# Altium integrated library Spansion Memory Flash.IntLib: 812 symbols (part 19 of 21)
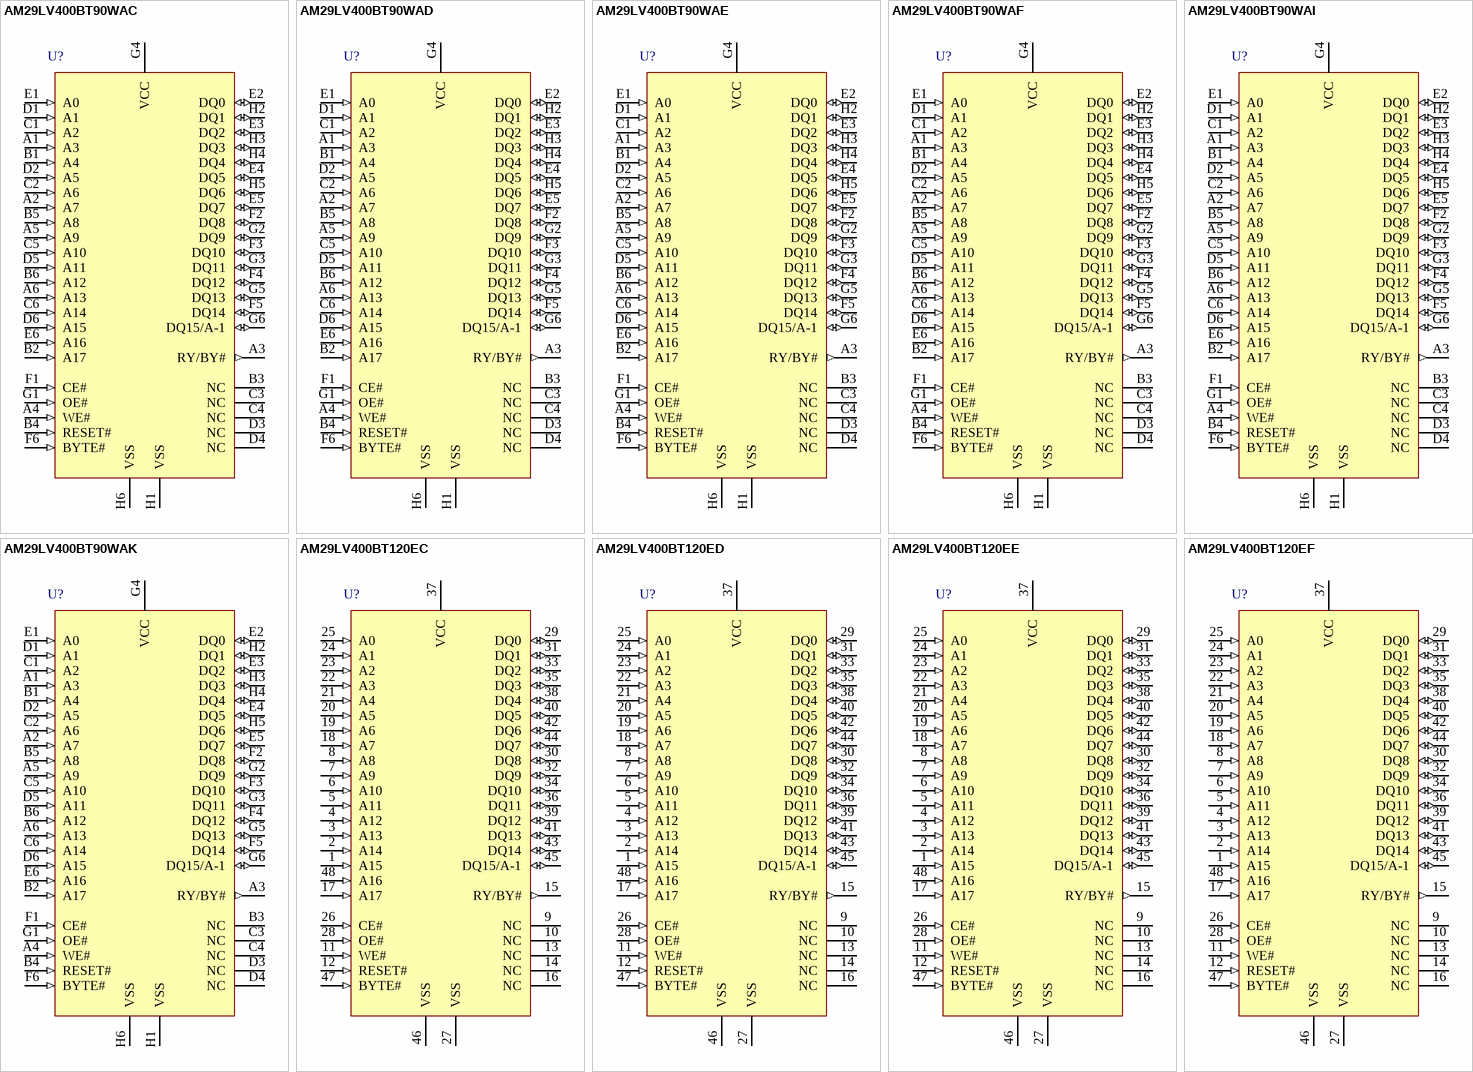
[diagram p84: symbols AM29LV400BT90WAC to AM29LV400BT120EF]

## AM29LV400BT90WAI
designator U?
4 Mb (512 K x 8 / 256 K x 16) CMOS 3.0 Volt Boot Sector Flash Memory, 48-Ball FBGA, Industrial Grade; Published: 6-Oct-2005; LatestRevisionDate: 13-Apr-2006; LatestRevisionNote: IPC-7351 Footprint Added.; DatasheetVersion: Oct-2003; PackageVersion: revAF, 10/99; PackageReference: FBA048; Publisher: Altium Limited; PackageDescription: 48-Ball Fine Pitch Ball Grid Array Rectangular 0.8 mm Pitch; ComponentLink1Description: Manufacturer Link; ComponentLink1URL: http://www.spansion.com/; ComponentLink2Description: Datasheet; ComponentLink2URL: http://www.spansion.com/datasheets/21523.pdf
footprint FBA048 (BGA, 48-Leads, Body 8x6mm, Pitch 0.8mm)
pins: A1 A3 (in), A2 A7 (in), A3 RY/BY# (out), A4 WE# (in), A5 A9 (in), A6 A13 (in), B1 A4 (in), B2 A17 (in), B3 NC, B4 RESET# (in), B5 A8 (in), B6 A12 (in), C1 A2 (in), C2 A6 (in), C3 NC, C4 NC, C5 A10 (in), C6 A14 (in), D1 A1 (in), D2 A5 (in), D3 NC, D4 NC, D5 A11 (in), D6 A15 (in), E1 A0 (in), E2 DQ0 (io), E3 DQ2 (io), E4 DQ5 (io), E5 DQ7 (io), E6 A16 (in), F1 CE# (in), F2 DQ8 (io), F3 DQ10 (io), F4 DQ12 (io), F5 DQ14 (io), F6 BYTE# (in), G1 OE# (in), G2 DQ9 (io), G3 DQ11 (io), G4 VCC (power), G5 DQ13 (io), G6 DQ15/A-1 (io), H1 VSS (power), H2 DQ1 (io), H3 DQ3 (io), H4 DQ4 (io), H5 DQ6 (io), H6 VSS (power)

## AM29LV400BT90WAK
designator U?
4 Mb (512 K x 8 / 256 K x 16) CMOS 3.0 Volt Boot Sector Flash Memory, 48-Ball FBGA, Extended Grade, Pb-free; Published: 6-Oct-2005; LatestRevisionDate: 13-Apr-2006; LatestRevisionNote: IPC-7351 Footprint Added.; DatasheetVersion: Oct-2003; PackageVersion: revAF, 10/99; PackageReference: FBA048; Publisher: Altium Limited; PackageDescription: 48-Ball Fine Pitch Ball Grid Array Rectangular 0.8 mm Pitch; ComponentLink1Description: Manufacturer Link; ComponentLink1URL: http://www.spansion.com/; ComponentLink2Description: Datasheet; ComponentLink2URL: http://www.spansion.com/datasheets/21523.pdf
footprint FBA048 (BGA, 48-Leads, Body 8x6mm, Pitch 0.8mm)
pins: A1 A3 (in), A2 A7 (in), A3 RY/BY# (out), A4 WE# (in), A5 A9 (in), A6 A13 (in), B1 A4 (in), B2 A17 (in), B3 NC, B4 RESET# (in), B5 A8 (in), B6 A12 (in), C1 A2 (in), C2 A6 (in), C3 NC, C4 NC, C5 A10 (in), C6 A14 (in), D1 A1 (in), D2 A5 (in), D3 NC, D4 NC, D5 A11 (in), D6 A15 (in), E1 A0 (in), E2 DQ0 (io), E3 DQ2 (io), E4 DQ5 (io), E5 DQ7 (io), E6 A16 (in), F1 CE# (in), F2 DQ8 (io), F3 DQ10 (io), F4 DQ12 (io), F5 DQ14 (io), F6 BYTE# (in), G1 OE# (in), G2 DQ9 (io), G3 DQ11 (io), G4 VCC (power), G5 DQ13 (io), G6 DQ15/A-1 (io), H1 VSS (power), H2 DQ1 (io), H3 DQ3 (io), H4 DQ4 (io), H5 DQ6 (io), H6 VSS (power)

## AM29LV400BT120EC
designator U?
4 Mb (512 K x 8 / 256 K x 16) CMOS 3.0 Volt Boot Sector Flash Memory, 48-Pin TSOP Standard Pinout, Commercial Grade; Published: 6-Oct-2005; DatasheetVersion: Oct-2003; PackageVersion: revAA, 10/99; PackageReference: TS048; Publisher: Altium Limited; PackageDescription: Shrink Small Outline; 48 Leads; Body Width 18.4 mm; Pitch 0.5 mm; Code_JEDEC: MO-142-DD; ComponentLink1Description: Manufacturer Link; ComponentLink1URL: http://www.spansion.com/; ComponentLink2Description: Datasheet; ComponentLink2URL: http://www.spansion.com/datasheets/21523.pdf
footprint TS048 (Shrink Small Outline; 48 Leads; Body Width 18.4 mm; Pitch 0.5 mm)
pins: 1 A15 (in), 2 A14 (in), 3 A13 (in), 4 A12 (in), 5 A11 (in), 6 A10 (in), 7 A9 (in), 8 A8 (in), 9 NC, 10 NC, 11 WE# (in), 12 RESET# (in), 13 NC, 14 NC, 15 RY/BY# (out), 16 NC, 17 A17 (in), 18 A7 (in), 19 A6 (in), 20 A5 (in), 21 A4 (in), 22 A3 (in), 23 A2 (in), 24 A1 (in), 25 A0 (in), 26 CE# (in), 27 VSS (power), 28 OE# (in), 29 DQ0 (io), 30 DQ8 (io), 31 DQ1 (io), 32 DQ9 (io), 33 DQ2 (io), 34 DQ10 (io), 35 DQ3 (io), 36 DQ11 (io), 37 VCC (power), 38 DQ4 (io), 39 DQ12 (io), 40 DQ5 (io), 41 DQ13 (io), 42 DQ6 (io), 43 DQ14 (io), 44 DQ7 (io), 45 DQ15/A-1 (io), 46 VSS (power), 47 BYTE# (in), 48 A16 (in)

## AM29LV400BT120ED
designator U?
4 Mb (512 K x 8 / 256 K x 16) CMOS 3.0 Volt Boot Sector Flash Memory, 48-Pin TSOP Standard Pinout, Commercial Grade, Pb-free; Published: 6-Oct-2005; DatasheetVersion: Oct-2003; PackageVersion: revAA, 10/99; PackageReference: TS048; Publisher: Altium Limited; PackageDescription: Shrink Small Outline; 48 Leads; Body Width 18.4 mm; Pitch 0.5 mm; Code_JEDEC: MO-142-DD; ComponentLink1Description: Manufacturer Link; ComponentLink1URL: http://www.spansion.com/; ComponentLink2Description: Datasheet; ComponentLink2URL: http://www.spansion.com/datasheets/21523.pdf
footprint TS048 (Shrink Small Outline; 48 Leads; Body Width 18.4 mm; Pitch 0.5 mm)
pins: 1 A15 (in), 2 A14 (in), 3 A13 (in), 4 A12 (in), 5 A11 (in), 6 A10 (in), 7 A9 (in), 8 A8 (in), 9 NC, 10 NC, 11 WE# (in), 12 RESET# (in), 13 NC, 14 NC, 15 RY/BY# (out), 16 NC, 17 A17 (in), 18 A7 (in), 19 A6 (in), 20 A5 (in), 21 A4 (in), 22 A3 (in), 23 A2 (in), 24 A1 (in), 25 A0 (in), 26 CE# (in), 27 VSS (power), 28 OE# (in), 29 DQ0 (io), 30 DQ8 (io), 31 DQ1 (io), 32 DQ9 (io), 33 DQ2 (io), 34 DQ10 (io), 35 DQ3 (io), 36 DQ11 (io), 37 VCC (power), 38 DQ4 (io), 39 DQ12 (io), 40 DQ5 (io), 41 DQ13 (io), 42 DQ6 (io), 43 DQ14 (io), 44 DQ7 (io), 45 DQ15/A-1 (io), 46 VSS (power), 47 BYTE# (in), 48 A16 (in)

## AM29LV400BT120EE
designator U?
4 Mb (512 K x 8 / 256 K x 16) CMOS 3.0 Volt Boot Sector Flash Memory, 48-Pin TSOP Standard Pinout, Extended Grade; Published: 6-Oct-2005; DatasheetVersion: Oct-2003; PackageVersion: revAA, 10/99; PackageReference: TS048; Publisher: Altium Limited; PackageDescription: Shrink Small Outline; 48 Leads; Body Width 18.4 mm; Pitch 0.5 mm; Code_JEDEC: MO-142-DD; ComponentLink1Description: Manufacturer Link; ComponentLink1URL: http://www.spansion.com/; ComponentLink2Description: Datasheet; ComponentLink2URL: http://www.spansion.com/datasheets/21523.pdf
footprint TS048 (Shrink Small Outline; 48 Leads; Body Width 18.4 mm; Pitch 0.5 mm)
pins: 1 A15 (in), 2 A14 (in), 3 A13 (in), 4 A12 (in), 5 A11 (in), 6 A10 (in), 7 A9 (in), 8 A8 (in), 9 NC, 10 NC, 11 WE# (in), 12 RESET# (in), 13 NC, 14 NC, 15 RY/BY# (out), 16 NC, 17 A17 (in), 18 A7 (in), 19 A6 (in), 20 A5 (in), 21 A4 (in), 22 A3 (in), 23 A2 (in), 24 A1 (in), 25 A0 (in), 26 CE# (in), 27 VSS (power), 28 OE# (in), 29 DQ0 (io), 30 DQ8 (io), 31 DQ1 (io), 32 DQ9 (io), 33 DQ2 (io), 34 DQ10 (io), 35 DQ3 (io), 36 DQ11 (io), 37 VCC (power), 38 DQ4 (io), 39 DQ12 (io), 40 DQ5 (io), 41 DQ13 (io), 42 DQ6 (io), 43 DQ14 (io), 44 DQ7 (io), 45 DQ15/A-1 (io), 46 VSS (power), 47 BYTE# (in), 48 A16 (in)

## AM29LV400BT120EF
designator U?
4 Mb (512 K x 8 / 256 K x 16) CMOS 3.0 Volt Boot Sector Flash Memory, 48-Pin TSOP Standard Pinout, Industrial Grade, Pb-free; Published: 6-Oct-2005; DatasheetVersion: Oct-2003; PackageVersion: revAA, 10/99; PackageReference: TS048; Publisher: Altium Limited; PackageDescription: Shrink Small Outline; 48 Leads; Body Width 18.4 mm; Pitch 0.5 mm; Code_JEDEC: MO-142-DD; ComponentLink1Description: Manufacturer Link; ComponentLink1URL: http://www.spansion.com/; ComponentLink2Description: Datasheet; ComponentLink2URL: http://www.spansion.com/datasheets/21523.pdf
footprint TS048 (Shrink Small Outline; 48 Leads; Body Width 18.4 mm; Pitch 0.5 mm)
pins: 1 A15 (in), 2 A14 (in), 3 A13 (in), 4 A12 (in), 5 A11 (in), 6 A10 (in), 7 A9 (in), 8 A8 (in), 9 NC, 10 NC, 11 WE# (in), 12 RESET# (in), 13 NC, 14 NC, 15 RY/BY# (out), 16 NC, 17 A17 (in), 18 A7 (in), 19 A6 (in), 20 A5 (in), 21 A4 (in), 22 A3 (in), 23 A2 (in), 24 A1 (in), 25 A0 (in), 26 CE# (in), 27 VSS (power), 28 OE# (in), 29 DQ0 (io), 30 DQ8 (io), 31 DQ1 (io), 32 DQ9 (io), 33 DQ2 (io), 34 DQ10 (io), 35 DQ3 (io), 36 DQ11 (io), 37 VCC (power), 38 DQ4 (io), 39 DQ12 (io), 40 DQ5 (io), 41 DQ13 (io), 42 DQ6 (io), 43 DQ14 (io), 44 DQ7 (io), 45 DQ15/A-1 (io), 46 VSS (power), 47 BYTE# (in), 48 A16 (in)

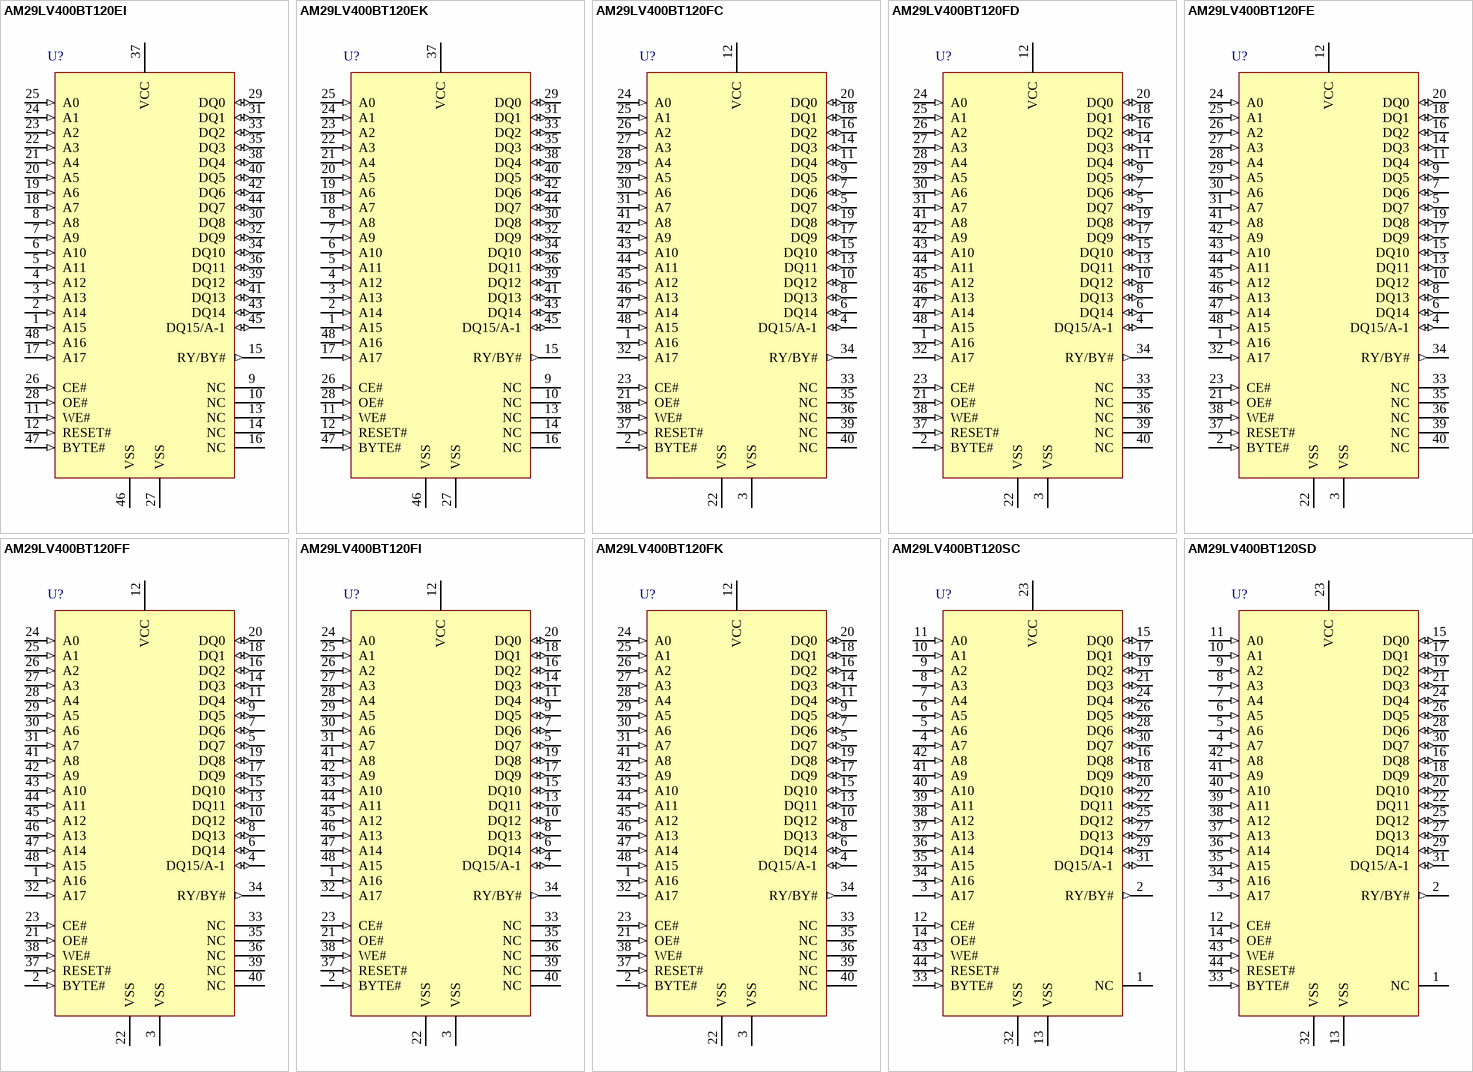
[diagram p58: symbols AM29LV400BT120EI to AM29LV400BT120SD]

## AM29LV400BT120EI
designator U?
4 Mb (512 K x 8 / 256 K x 16) CMOS 3.0 Volt Boot Sector Flash Memory, 48-Pin TSOP Standard Pinout, Industrial Grade; Published: 6-Oct-2005; DatasheetVersion: Oct-2003; PackageVersion: revAA, 10/99; PackageReference: TS048; Publisher: Altium Limited; PackageDescription: Shrink Small Outline; 48 Leads; Body Width 18.4 mm; Pitch 0.5 mm; Code_JEDEC: MO-142-DD; ComponentLink1Description: Manufacturer Link; ComponentLink1URL: http://www.spansion.com/; ComponentLink2Description: Datasheet; ComponentLink2URL: http://www.spansion.com/datasheets/21523.pdf
footprint TS048 (Shrink Small Outline; 48 Leads; Body Width 18.4 mm; Pitch 0.5 mm)
pins: 1 A15 (in), 2 A14 (in), 3 A13 (in), 4 A12 (in), 5 A11 (in), 6 A10 (in), 7 A9 (in), 8 A8 (in), 9 NC, 10 NC, 11 WE# (in), 12 RESET# (in), 13 NC, 14 NC, 15 RY/BY# (out), 16 NC, 17 A17 (in), 18 A7 (in), 19 A6 (in), 20 A5 (in), 21 A4 (in), 22 A3 (in), 23 A2 (in), 24 A1 (in), 25 A0 (in), 26 CE# (in), 27 VSS (power), 28 OE# (in), 29 DQ0 (io), 30 DQ8 (io), 31 DQ1 (io), 32 DQ9 (io), 33 DQ2 (io), 34 DQ10 (io), 35 DQ3 (io), 36 DQ11 (io), 37 VCC (power), 38 DQ4 (io), 39 DQ12 (io), 40 DQ5 (io), 41 DQ13 (io), 42 DQ6 (io), 43 DQ14 (io), 44 DQ7 (io), 45 DQ15/A-1 (io), 46 VSS (power), 47 BYTE# (in), 48 A16 (in)

## AM29LV400BT120EK
designator U?
4 Mb (512 K x 8 / 256 K x 16) CMOS 3.0 Volt Boot Sector Flash Memory, 48-Pin TSOP Standard Pinout, Extended Grade, Pb-free; Published: 6-Oct-2005; DatasheetVersion: Oct-2003; PackageVersion: revAA, 10/99; PackageReference: TS048; Publisher: Altium Limited; PackageDescription: Shrink Small Outline; 48 Leads; Body Width 18.4 mm; Pitch 0.5 mm; Code_JEDEC: MO-142-DD; ComponentLink1Description: Manufacturer Link; ComponentLink1URL: http://www.spansion.com/; ComponentLink2Description: Datasheet; ComponentLink2URL: http://www.spansion.com/datasheets/21523.pdf
footprint TS048 (Shrink Small Outline; 48 Leads; Body Width 18.4 mm; Pitch 0.5 mm)
pins: 1 A15 (in), 2 A14 (in), 3 A13 (in), 4 A12 (in), 5 A11 (in), 6 A10 (in), 7 A9 (in), 8 A8 (in), 9 NC, 10 NC, 11 WE# (in), 12 RESET# (in), 13 NC, 14 NC, 15 RY/BY# (out), 16 NC, 17 A17 (in), 18 A7 (in), 19 A6 (in), 20 A5 (in), 21 A4 (in), 22 A3 (in), 23 A2 (in), 24 A1 (in), 25 A0 (in), 26 CE# (in), 27 VSS (power), 28 OE# (in), 29 DQ0 (io), 30 DQ8 (io), 31 DQ1 (io), 32 DQ9 (io), 33 DQ2 (io), 34 DQ10 (io), 35 DQ3 (io), 36 DQ11 (io), 37 VCC (power), 38 DQ4 (io), 39 DQ12 (io), 40 DQ5 (io), 41 DQ13 (io), 42 DQ6 (io), 43 DQ14 (io), 44 DQ7 (io), 45 DQ15/A-1 (io), 46 VSS (power), 47 BYTE# (in), 48 A16 (in)

## AM29LV400BT120FC
designator U?
4 Mb (512 K x 8 / 256 K x 16) CMOS 3.0 Volt Boot Sector Flash Memory, 48-Pin TSOP Reverse Pinout, Commercial Grade; Published: 6-Oct-2005; DatasheetVersion: Oct-2003; PackageVersion: revAA, 10/99; PackageReference: TSR048; Publisher: Altium Limited; PackageDescription: Thin Small Outline, Reverse Pinout; 48 Leads; Body Width 18.4 mm; Pitch 0.5 mm; Code_JEDEC: MO-142-DD; ComponentLink1Description: Manufacturer Link; ComponentLink1URL: http://www.spansion.com/; ComponentLink2Description: Datasheet; ComponentLink2URL: http://www.spansion.com/datasheets/21523.pdf
footprint TSR048 (Thin Small Outline, Reverse Pinout; 48 Leads; Body Width 18.4 mm; Pitch 0.5 mm)
pins: 1 A16 (in), 2 BYTE# (in), 3 VSS (power), 4 DQ15/A-1 (io), 5 DQ7 (io), 6 DQ14 (io), 7 DQ6 (io), 8 DQ13 (io), 9 DQ5 (io), 10 DQ12 (io), 11 DQ4 (io), 12 VCC (power), 13 DQ11 (io), 14 DQ3 (io), 15 DQ10 (io), 16 DQ2 (io), 17 DQ9 (io), 18 DQ1 (io), 19 DQ8 (io), 20 DQ0 (io), 21 OE# (in), 22 VSS (power), 23 CE# (in), 24 A0 (in), 25 A1 (in), 26 A2 (in), 27 A3 (in), 28 A4 (in), 29 A5 (in), 30 A6 (in), 31 A7 (in), 32 A17 (in), 33 NC, 34 RY/BY# (out), 35 NC, 36 NC, 37 RESET# (in), 38 WE# (in), 39 NC, 40 NC, 41 A8 (in), 42 A9 (in), 43 A10 (in), 44 A11 (in), 45 A12 (in), 46 A13 (in), 47 A14 (in), 48 A15 (in)

## AM29LV400BT120FD
designator U?
4 Mb (512 K x 8 / 256 K x 16) CMOS 3.0 Volt Boot Sector Flash Memory, 48-Pin TSOP Reverse Pinout, Commercial Grade, Pb-free; Published: 6-Oct-2005; DatasheetVersion: Oct-2003; PackageVersion: revAA, 10/99; PackageReference: TSR048; Publisher: Altium Limited; PackageDescription: Thin Small Outline, Reverse Pinout; 48 Leads; Body Width 18.4 mm; Pitch 0.5 mm; Code_JEDEC: MO-142-DD; ComponentLink1Description: Manufacturer Link; ComponentLink1URL: http://www.spansion.com/; ComponentLink2Description: Datasheet; ComponentLink2URL: http://www.spansion.com/datasheets/21523.pdf
footprint TSR048 (Thin Small Outline, Reverse Pinout; 48 Leads; Body Width 18.4 mm; Pitch 0.5 mm)
pins: 1 A16 (in), 2 BYTE# (in), 3 VSS (power), 4 DQ15/A-1 (io), 5 DQ7 (io), 6 DQ14 (io), 7 DQ6 (io), 8 DQ13 (io), 9 DQ5 (io), 10 DQ12 (io), 11 DQ4 (io), 12 VCC (power), 13 DQ11 (io), 14 DQ3 (io), 15 DQ10 (io), 16 DQ2 (io), 17 DQ9 (io), 18 DQ1 (io), 19 DQ8 (io), 20 DQ0 (io), 21 OE# (in), 22 VSS (power), 23 CE# (in), 24 A0 (in), 25 A1 (in), 26 A2 (in), 27 A3 (in), 28 A4 (in), 29 A5 (in), 30 A6 (in), 31 A7 (in), 32 A17 (in), 33 NC, 34 RY/BY# (out), 35 NC, 36 NC, 37 RESET# (in), 38 WE# (in), 39 NC, 40 NC, 41 A8 (in), 42 A9 (in), 43 A10 (in), 44 A11 (in), 45 A12 (in), 46 A13 (in), 47 A14 (in), 48 A15 (in)

## AM29LV400BT120FE
designator U?
4 Mb (512 K x 8 / 256 K x 16) CMOS 3.0 Volt Boot Sector Flash Memory, 48-Pin TSOP Reverse Pinout, Extended Grade; Published: 6-Oct-2005; DatasheetVersion: Oct-2003; PackageVersion: revAA, 10/99; PackageReference: TSR048; Publisher: Altium Limited; PackageDescription: Thin Small Outline, Reverse Pinout; 48 Leads; Body Width 18.4 mm; Pitch 0.5 mm; Code_JEDEC: MO-142-DD; ComponentLink1Description: Manufacturer Link; ComponentLink1URL: http://www.spansion.com/; ComponentLink2Description: Datasheet; ComponentLink2URL: http://www.spansion.com/datasheets/21523.pdf
footprint TSR048 (Thin Small Outline, Reverse Pinout; 48 Leads; Body Width 18.4 mm; Pitch 0.5 mm)
pins: 1 A16 (in), 2 BYTE# (in), 3 VSS (power), 4 DQ15/A-1 (io), 5 DQ7 (io), 6 DQ14 (io), 7 DQ6 (io), 8 DQ13 (io), 9 DQ5 (io), 10 DQ12 (io), 11 DQ4 (io), 12 VCC (power), 13 DQ11 (io), 14 DQ3 (io), 15 DQ10 (io), 16 DQ2 (io), 17 DQ9 (io), 18 DQ1 (io), 19 DQ8 (io), 20 DQ0 (io), 21 OE# (in), 22 VSS (power), 23 CE# (in), 24 A0 (in), 25 A1 (in), 26 A2 (in), 27 A3 (in), 28 A4 (in), 29 A5 (in), 30 A6 (in), 31 A7 (in), 32 A17 (in), 33 NC, 34 RY/BY# (out), 35 NC, 36 NC, 37 RESET# (in), 38 WE# (in), 39 NC, 40 NC, 41 A8 (in), 42 A9 (in), 43 A10 (in), 44 A11 (in), 45 A12 (in), 46 A13 (in), 47 A14 (in), 48 A15 (in)

## AM29LV400BT120FF
designator U?
4 Mb (512 K x 8 / 256 K x 16) CMOS 3.0 Volt Boot Sector Flash Memory, 48-Pin TSOP Reverse Pinout, Industrial Grade, Pb-free; Published: 6-Oct-2005; DatasheetVersion: Oct-2003; PackageVersion: revAA, 10/99; PackageReference: TSR048; Publisher: Altium Limited; PackageDescription: Thin Small Outline, Reverse Pinout; 48 Leads; Body Width 18.4 mm; Pitch 0.5 mm; Code_JEDEC: MO-142-DD; ComponentLink1Description: Manufacturer Link; ComponentLink1URL: http://www.spansion.com/; ComponentLink2Description: Datasheet; ComponentLink2URL: http://www.spansion.com/datasheets/21523.pdf
footprint TSR048 (Thin Small Outline, Reverse Pinout; 48 Leads; Body Width 18.4 mm; Pitch 0.5 mm)
pins: 1 A16 (in), 2 BYTE# (in), 3 VSS (power), 4 DQ15/A-1 (io), 5 DQ7 (io), 6 DQ14 (io), 7 DQ6 (io), 8 DQ13 (io), 9 DQ5 (io), 10 DQ12 (io), 11 DQ4 (io), 12 VCC (power), 13 DQ11 (io), 14 DQ3 (io), 15 DQ10 (io), 16 DQ2 (io), 17 DQ9 (io), 18 DQ1 (io), 19 DQ8 (io), 20 DQ0 (io), 21 OE# (in), 22 VSS (power), 23 CE# (in), 24 A0 (in), 25 A1 (in), 26 A2 (in), 27 A3 (in), 28 A4 (in), 29 A5 (in), 30 A6 (in), 31 A7 (in), 32 A17 (in), 33 NC, 34 RY/BY# (out), 35 NC, 36 NC, 37 RESET# (in), 38 WE# (in), 39 NC, 40 NC, 41 A8 (in), 42 A9 (in), 43 A10 (in), 44 A11 (in), 45 A12 (in), 46 A13 (in), 47 A14 (in), 48 A15 (in)

## AM29LV400BT120FI
designator U?
4 Mb (512 K x 8 / 256 K x 16) CMOS 3.0 Volt Boot Sector Flash Memory, 48-Pin TSOP Reverse Pinout, Industrial Grade; Published: 6-Oct-2005; DatasheetVersion: Oct-2003; PackageVersion: revAA, 10/99; PackageReference: TSR048; Publisher: Altium Limited; PackageDescription: Thin Small Outline, Reverse Pinout; 48 Leads; Body Width 18.4 mm; Pitch 0.5 mm; Code_JEDEC: MO-142-DD; ComponentLink1Description: Manufacturer Link; ComponentLink1URL: http://www.spansion.com/; ComponentLink2Description: Datasheet; ComponentLink2URL: http://www.spansion.com/datasheets/21523.pdf
footprint TSR048 (Thin Small Outline, Reverse Pinout; 48 Leads; Body Width 18.4 mm; Pitch 0.5 mm)
pins: 1 A16 (in), 2 BYTE# (in), 3 VSS (power), 4 DQ15/A-1 (io), 5 DQ7 (io), 6 DQ14 (io), 7 DQ6 (io), 8 DQ13 (io), 9 DQ5 (io), 10 DQ12 (io), 11 DQ4 (io), 12 VCC (power), 13 DQ11 (io), 14 DQ3 (io), 15 DQ10 (io), 16 DQ2 (io), 17 DQ9 (io), 18 DQ1 (io), 19 DQ8 (io), 20 DQ0 (io), 21 OE# (in), 22 VSS (power), 23 CE# (in), 24 A0 (in), 25 A1 (in), 26 A2 (in), 27 A3 (in), 28 A4 (in), 29 A5 (in), 30 A6 (in), 31 A7 (in), 32 A17 (in), 33 NC, 34 RY/BY# (out), 35 NC, 36 NC, 37 RESET# (in), 38 WE# (in), 39 NC, 40 NC, 41 A8 (in), 42 A9 (in), 43 A10 (in), 44 A11 (in), 45 A12 (in), 46 A13 (in), 47 A14 (in), 48 A15 (in)

## AM29LV400BT120FK
designator U?
4 Mb (512 K x 8 / 256 K x 16) CMOS 3.0 Volt Boot Sector Flash Memory, 48-Pin TSOP Reverse Pinout, Extended Grade, Pb-free; Published: 6-Oct-2005; DatasheetVersion: Oct-2003; PackageVersion: revAA, 10/99; PackageReference: TSR048; Publisher: Altium Limited; PackageDescription: Thin Small Outline, Reverse Pinout; 48 Leads; Body Width 18.4 mm; Pitch 0.5 mm; Code_JEDEC: MO-142-DD; ComponentLink1Description: Manufacturer Link; ComponentLink1URL: http://www.spansion.com/; ComponentLink2Description: Datasheet; ComponentLink2URL: http://www.spansion.com/datasheets/21523.pdf
footprint TSR048 (Thin Small Outline, Reverse Pinout; 48 Leads; Body Width 18.4 mm; Pitch 0.5 mm)
pins: 1 A16 (in), 2 BYTE# (in), 3 VSS (power), 4 DQ15/A-1 (io), 5 DQ7 (io), 6 DQ14 (io), 7 DQ6 (io), 8 DQ13 (io), 9 DQ5 (io), 10 DQ12 (io), 11 DQ4 (io), 12 VCC (power), 13 DQ11 (io), 14 DQ3 (io), 15 DQ10 (io), 16 DQ2 (io), 17 DQ9 (io), 18 DQ1 (io), 19 DQ8 (io), 20 DQ0 (io), 21 OE# (in), 22 VSS (power), 23 CE# (in), 24 A0 (in), 25 A1 (in), 26 A2 (in), 27 A3 (in), 28 A4 (in), 29 A5 (in), 30 A6 (in), 31 A7 (in), 32 A17 (in), 33 NC, 34 RY/BY# (out), 35 NC, 36 NC, 37 RESET# (in), 38 WE# (in), 39 NC, 40 NC, 41 A8 (in), 42 A9 (in), 43 A10 (in), 44 A11 (in), 45 A12 (in), 46 A13 (in), 47 A14 (in), 48 A15 (in)

## AM29LV400BT120SC
designator U?
4 Mb (512 K x 8 / 256 K x 16) CMOS 3.0 Volt Boot Sector Flash Memory, 44-Pin SOP, Commercial Grade; Published: 6-Oct-2005; LatestRevisionDate: 13-Apr-2006; LatestRevisionNote: IPC-7351 Footprint Added.; DatasheetVersion: Oct-2003; PackageVersion: revAC, 10/99; PackageReference: SO044; Publisher: Altium Limited; PackageDescription: 44-Pin Small Outline Package 1.27 mm Pitch; Code_JEDEC: MO-180-AA; ComponentLink1Description: Manufacturer Link; ComponentLink1URL: http://www.spansion.com/; ComponentLink2Description: Datasheet; ComponentLink2URL: http://www.spansion.com/datasheets/21523.pdf
footprint SO044_N (SOP, 44-Leads, Body 28.2x13.3mm, Pitch 1.27mm, IPC Medium Density)
footprint SO044_L (SOP, 44-Leads, Body 28.2x13.3mm, Pitch 1.27mm, IPC High Density)
footprint SO044_M (SOP, 44-Leads, Body 28.2x13.3mm, Pitch 1.27mm, IPC Low Density)
pins: 1 NC, 2 RY/BY# (out), 3 A17 (in), 4 A7 (in), 5 A6 (in), 6 A5 (in), 7 A4 (in), 8 A3 (in), 9 A2 (in), 10 A1 (in), 11 A0 (in), 12 CE# (in), 13 VSS (power), 14 OE# (in), 15 DQ0 (io), 16 DQ8 (io), 17 DQ1 (io), 18 DQ9 (io), 19 DQ2 (io), 20 DQ10 (io), 21 DQ3 (io), 22 DQ11 (io), 23 VCC (power), 24 DQ4 (io), 25 DQ12 (io), 26 DQ5 (io), 27 DQ13 (io), 28 DQ6 (io), 29 DQ14 (io), 30 DQ7 (io), 31 DQ15/A-1 (io), 32 VSS (power), 33 BYTE# (in), 34 A16 (in), 35 A15 (in), 36 A14 (in), 37 A13 (in), 38 A12 (in), 39 A11 (in), 40 A10 (in), 41 A9 (in), 42 A8 (in), 43 WE# (in), 44 RESET# (in)

## AM29LV400BT120SD
designator U?
4 Mb (512 K x 8 / 256 K x 16) CMOS 3.0 Volt Boot Sector Flash Memory, 44-Pin SOP, Commercial Grade, Pb-free; Published: 6-Oct-2005; LatestRevisionDate: 13-Apr-2006; LatestRevisionNote: IPC-7351 Footprint Added.; DatasheetVersion: Oct-2003; PackageVersion: revAC, 10/99; PackageReference: SO044; Publisher: Altium Limited; PackageDescription: 44-Pin Small Outline Package 1.27 mm Pitch; Code_JEDEC: MO-180-AA; ComponentLink1Description: Manufacturer Link; ComponentLink1URL: http://www.spansion.com/; ComponentLink2Description: Datasheet; ComponentLink2URL: http://www.spansion.com/datasheets/21523.pdf
footprint SO044_N (SOP, 44-Leads, Body 28.2x13.3mm, Pitch 1.27mm, IPC Medium Density)
footprint SO044_L (SOP, 44-Leads, Body 28.2x13.3mm, Pitch 1.27mm, IPC High Density)
footprint SO044_M (SOP, 44-Leads, Body 28.2x13.3mm, Pitch 1.27mm, IPC Low Density)
pins: 1 NC, 2 RY/BY# (out), 3 A17 (in), 4 A7 (in), 5 A6 (in), 6 A5 (in), 7 A4 (in), 8 A3 (in), 9 A2 (in), 10 A1 (in), 11 A0 (in), 12 CE# (in), 13 VSS (power), 14 OE# (in), 15 DQ0 (io), 16 DQ8 (io), 17 DQ1 (io), 18 DQ9 (io), 19 DQ2 (io), 20 DQ10 (io), 21 DQ3 (io), 22 DQ11 (io), 23 VCC (power), 24 DQ4 (io), 25 DQ12 (io), 26 DQ5 (io), 27 DQ13 (io), 28 DQ6 (io), 29 DQ14 (io), 30 DQ7 (io), 31 DQ15/A-1 (io), 32 VSS (power), 33 BYTE# (in), 34 A16 (in), 35 A15 (in), 36 A14 (in), 37 A13 (in), 38 A12 (in), 39 A11 (in), 40 A10 (in), 41 A9 (in), 42 A8 (in), 43 WE# (in), 44 RESET# (in)

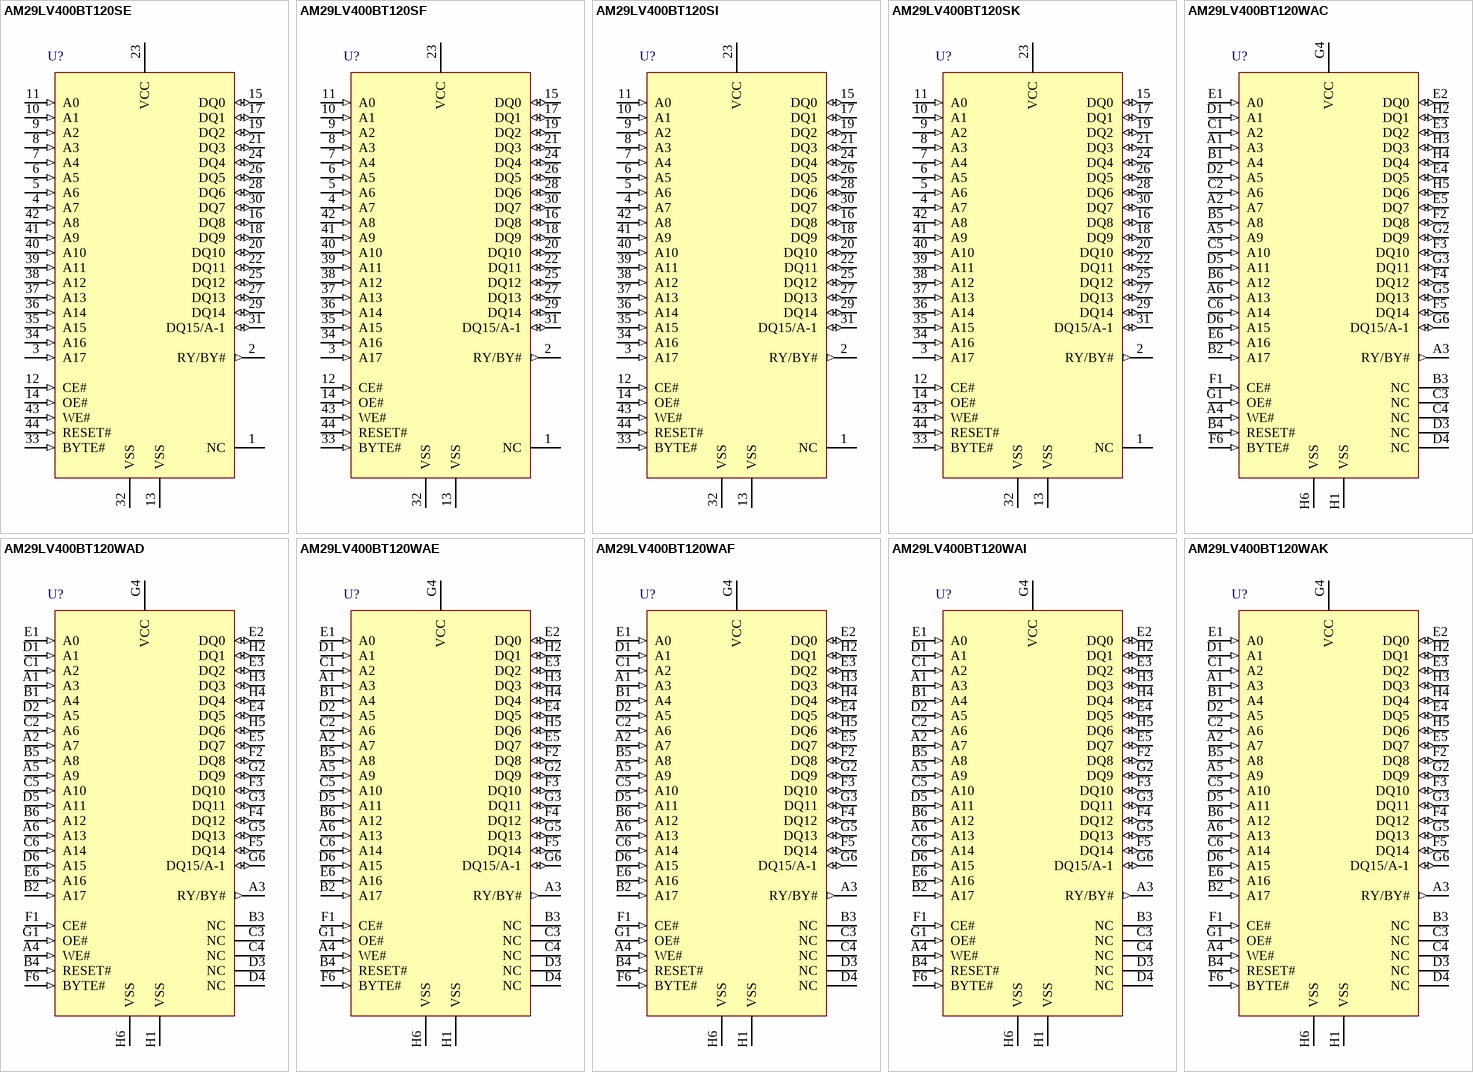
[diagram p59: symbols AM29LV400BT120SE to AM29LV400BT120WAK]

## AM29LV400BT120SE
designator U?
4 Mb (512 K x 8 / 256 K x 16) CMOS 3.0 Volt Boot Sector Flash Memory, 44-Pin SOP, Extended Grade; Published: 6-Oct-2005; LatestRevisionDate: 13-Apr-2006; LatestRevisionNote: IPC-7351 Footprint Added.; DatasheetVersion: Oct-2003; PackageVersion: revAC, 10/99; PackageReference: SO044; Publisher: Altium Limited; PackageDescription: 44-Pin Small Outline Package 1.27 mm Pitch; Code_JEDEC: MO-180-AA; ComponentLink1Description: Manufacturer Link; ComponentLink1URL: http://www.spansion.com/; ComponentLink2Description: Datasheet; ComponentLink2URL: http://www.spansion.com/datasheets/21523.pdf
footprint SO044_N (SOP, 44-Leads, Body 28.2x13.3mm, Pitch 1.27mm, IPC Medium Density)
footprint SO044_L (SOP, 44-Leads, Body 28.2x13.3mm, Pitch 1.27mm, IPC High Density)
footprint SO044_M (SOP, 44-Leads, Body 28.2x13.3mm, Pitch 1.27mm, IPC Low Density)
pins: 1 NC, 2 RY/BY# (out), 3 A17 (in), 4 A7 (in), 5 A6 (in), 6 A5 (in), 7 A4 (in), 8 A3 (in), 9 A2 (in), 10 A1 (in), 11 A0 (in), 12 CE# (in), 13 VSS (power), 14 OE# (in), 15 DQ0 (io), 16 DQ8 (io), 17 DQ1 (io), 18 DQ9 (io), 19 DQ2 (io), 20 DQ10 (io), 21 DQ3 (io), 22 DQ11 (io), 23 VCC (power), 24 DQ4 (io), 25 DQ12 (io), 26 DQ5 (io), 27 DQ13 (io), 28 DQ6 (io), 29 DQ14 (io), 30 DQ7 (io), 31 DQ15/A-1 (io), 32 VSS (power), 33 BYTE# (in), 34 A16 (in), 35 A15 (in), 36 A14 (in), 37 A13 (in), 38 A12 (in), 39 A11 (in), 40 A10 (in), 41 A9 (in), 42 A8 (in), 43 WE# (in), 44 RESET# (in)

## AM29LV400BT120SF
designator U?
4 Mb (512 K x 8 / 256 K x 16) CMOS 3.0 Volt Boot Sector Flash Memory, 44-Pin SOP, Industrial Grade, Pb-free; Published: 6-Oct-2005; LatestRevisionDate: 13-Apr-2006; LatestRevisionNote: IPC-7351 Footprint Added.; DatasheetVersion: Oct-2003; PackageVersion: revAC, 10/99; PackageReference: SO044; Publisher: Altium Limited; PackageDescription: 44-Pin Small Outline Package 1.27 mm Pitch; Code_JEDEC: MO-180-AA; ComponentLink1Description: Manufacturer Link; ComponentLink1URL: http://www.spansion.com/; ComponentLink2Description: Datasheet; ComponentLink2URL: http://www.spansion.com/datasheets/21523.pdf
footprint SO044_N (SOP, 44-Leads, Body 28.2x13.3mm, Pitch 1.27mm, IPC Medium Density)
footprint SO044_L (SOP, 44-Leads, Body 28.2x13.3mm, Pitch 1.27mm, IPC High Density)
footprint SO044_M (SOP, 44-Leads, Body 28.2x13.3mm, Pitch 1.27mm, IPC Low Density)
pins: 1 NC, 2 RY/BY# (out), 3 A17 (in), 4 A7 (in), 5 A6 (in), 6 A5 (in), 7 A4 (in), 8 A3 (in), 9 A2 (in), 10 A1 (in), 11 A0 (in), 12 CE# (in), 13 VSS (power), 14 OE# (in), 15 DQ0 (io), 16 DQ8 (io), 17 DQ1 (io), 18 DQ9 (io), 19 DQ2 (io), 20 DQ10 (io), 21 DQ3 (io), 22 DQ11 (io), 23 VCC (power), 24 DQ4 (io), 25 DQ12 (io), 26 DQ5 (io), 27 DQ13 (io), 28 DQ6 (io), 29 DQ14 (io), 30 DQ7 (io), 31 DQ15/A-1 (io), 32 VSS (power), 33 BYTE# (in), 34 A16 (in), 35 A15 (in), 36 A14 (in), 37 A13 (in), 38 A12 (in), 39 A11 (in), 40 A10 (in), 41 A9 (in), 42 A8 (in), 43 WE# (in), 44 RESET# (in)

## AM29LV400BT120SI
designator U?
4 Mb (512 K x 8 / 256 K x 16) CMOS 3.0 Volt Boot Sector Flash Memory, 44-Pin SOP, Industrial Grade; Published: 6-Oct-2005; LatestRevisionDate: 13-Apr-2006; LatestRevisionNote: IPC-7351 Footprint Added.; DatasheetVersion: Oct-2003; PackageVersion: revAC, 10/99; PackageReference: SO044; Publisher: Altium Limited; PackageDescription: 44-Pin Small Outline Package 1.27 mm Pitch; Code_JEDEC: MO-180-AA; ComponentLink1Description: Manufacturer Link; ComponentLink1URL: http://www.spansion.com/; ComponentLink2Description: Datasheet; ComponentLink2URL: http://www.spansion.com/datasheets/21523.pdf
footprint SO044_N (SOP, 44-Leads, Body 28.2x13.3mm, Pitch 1.27mm, IPC Medium Density)
footprint SO044_L (SOP, 44-Leads, Body 28.2x13.3mm, Pitch 1.27mm, IPC High Density)
footprint SO044_M (SOP, 44-Leads, Body 28.2x13.3mm, Pitch 1.27mm, IPC Low Density)
pins: 1 NC, 2 RY/BY# (out), 3 A17 (in), 4 A7 (in), 5 A6 (in), 6 A5 (in), 7 A4 (in), 8 A3 (in), 9 A2 (in), 10 A1 (in), 11 A0 (in), 12 CE# (in), 13 VSS (power), 14 OE# (in), 15 DQ0 (io), 16 DQ8 (io), 17 DQ1 (io), 18 DQ9 (io), 19 DQ2 (io), 20 DQ10 (io), 21 DQ3 (io), 22 DQ11 (io), 23 VCC (power), 24 DQ4 (io), 25 DQ12 (io), 26 DQ5 (io), 27 DQ13 (io), 28 DQ6 (io), 29 DQ14 (io), 30 DQ7 (io), 31 DQ15/A-1 (io), 32 VSS (power), 33 BYTE# (in), 34 A16 (in), 35 A15 (in), 36 A14 (in), 37 A13 (in), 38 A12 (in), 39 A11 (in), 40 A10 (in), 41 A9 (in), 42 A8 (in), 43 WE# (in), 44 RESET# (in)

## AM29LV400BT120SK
designator U?
4 Mb (512 K x 8 / 256 K x 16) CMOS 3.0 Volt Boot Sector Flash Memory, 44-Pin SOP, Extended Grade, Pb-free; Published: 6-Oct-2005; LatestRevisionDate: 13-Apr-2006; LatestRevisionNote: IPC-7351 Footprint Added.; DatasheetVersion: Oct-2003; PackageVersion: revAC, 10/99; PackageReference: SO044; Publisher: Altium Limited; PackageDescription: 44-Pin Small Outline Package 1.27 mm Pitch; Code_JEDEC: MO-180-AA; ComponentLink1Description: Manufacturer Link; ComponentLink1URL: http://www.spansion.com/; ComponentLink2Description: Datasheet; ComponentLink2URL: http://www.spansion.com/datasheets/21523.pdf
footprint SO044_N (SOP, 44-Leads, Body 28.2x13.3mm, Pitch 1.27mm, IPC Medium Density)
footprint SO044_L (SOP, 44-Leads, Body 28.2x13.3mm, Pitch 1.27mm, IPC High Density)
footprint SO044_M (SOP, 44-Leads, Body 28.2x13.3mm, Pitch 1.27mm, IPC Low Density)
pins: 1 NC, 2 RY/BY# (out), 3 A17 (in), 4 A7 (in), 5 A6 (in), 6 A5 (in), 7 A4 (in), 8 A3 (in), 9 A2 (in), 10 A1 (in), 11 A0 (in), 12 CE# (in), 13 VSS (power), 14 OE# (in), 15 DQ0 (io), 16 DQ8 (io), 17 DQ1 (io), 18 DQ9 (io), 19 DQ2 (io), 20 DQ10 (io), 21 DQ3 (io), 22 DQ11 (io), 23 VCC (power), 24 DQ4 (io), 25 DQ12 (io), 26 DQ5 (io), 27 DQ13 (io), 28 DQ6 (io), 29 DQ14 (io), 30 DQ7 (io), 31 DQ15/A-1 (io), 32 VSS (power), 33 BYTE# (in), 34 A16 (in), 35 A15 (in), 36 A14 (in), 37 A13 (in), 38 A12 (in), 39 A11 (in), 40 A10 (in), 41 A9 (in), 42 A8 (in), 43 WE# (in), 44 RESET# (in)

## AM29LV400BT120WAC
designator U?
4 Mb (512 K x 8 / 256 K x 16) CMOS 3.0 Volt Boot Sector Flash Memory, 48-Ball FBGA, Commercial Grade; Published: 6-Oct-2005; LatestRevisionDate: 13-Apr-2006; LatestRevisionNote: IPC-7351 Footprint Added.; DatasheetVersion: Oct-2003; PackageVersion: revAF, 10/99; PackageReference: FBA048; Publisher: Altium Limited; PackageDescription: 48-Ball Fine Pitch Ball Grid Array Rectangular 0.8 mm Pitch; ComponentLink1Description: Manufacturer Link; ComponentLink1URL: http://www.spansion.com/; ComponentLink2Description: Datasheet; ComponentLink2URL: http://www.spansion.com/datasheets/21523.pdf
footprint FBA048 (BGA, 48-Leads, Body 8x6mm, Pitch 0.8mm)
pins: A1 A3 (in), A2 A7 (in), A3 RY/BY# (out), A4 WE# (in), A5 A9 (in), A6 A13 (in), B1 A4 (in), B2 A17 (in), B3 NC, B4 RESET# (in), B5 A8 (in), B6 A12 (in), C1 A2 (in), C2 A6 (in), C3 NC, C4 NC, C5 A10 (in), C6 A14 (in), D1 A1 (in), D2 A5 (in), D3 NC, D4 NC, D5 A11 (in), D6 A15 (in), E1 A0 (in), E2 DQ0 (io), E3 DQ2 (io), E4 DQ5 (io), E5 DQ7 (io), E6 A16 (in), F1 CE# (in), F2 DQ8 (io), F3 DQ10 (io), F4 DQ12 (io), F5 DQ14 (io), F6 BYTE# (in), G1 OE# (in), G2 DQ9 (io), G3 DQ11 (io), G4 VCC (power), G5 DQ13 (io), G6 DQ15/A-1 (io), H1 VSS (power), H2 DQ1 (io), H3 DQ3 (io), H4 DQ4 (io), H5 DQ6 (io), H6 VSS (power)

## AM29LV400BT120WAD
designator U?
4 Mb (512 K x 8 / 256 K x 16) CMOS 3.0 Volt Boot Sector Flash Memory, 48-Ball FBGA, Commercial Grade, Pb-free; Published: 6-Oct-2005; LatestRevisionDate: 13-Apr-2006; LatestRevisionNote: IPC-7351 Footprint Added.; DatasheetVersion: Oct-2003; PackageVersion: revAF, 10/99; PackageReference: FBA048; Publisher: Altium Limited; PackageDescription: 48-Ball Fine Pitch Ball Grid Array Rectangular 0.8 mm Pitch; ComponentLink1Description: Manufacturer Link; ComponentLink1URL: http://www.spansion.com/; ComponentLink2Description: Datasheet; ComponentLink2URL: http://www.spansion.com/datasheets/21523.pdf
footprint FBA048 (BGA, 48-Leads, Body 8x6mm, Pitch 0.8mm)
pins: A1 A3 (in), A2 A7 (in), A3 RY/BY# (out), A4 WE# (in), A5 A9 (in), A6 A13 (in), B1 A4 (in), B2 A17 (in), B3 NC, B4 RESET# (in), B5 A8 (in), B6 A12 (in), C1 A2 (in), C2 A6 (in), C3 NC, C4 NC, C5 A10 (in), C6 A14 (in), D1 A1 (in), D2 A5 (in), D3 NC, D4 NC, D5 A11 (in), D6 A15 (in), E1 A0 (in), E2 DQ0 (io), E3 DQ2 (io), E4 DQ5 (io), E5 DQ7 (io), E6 A16 (in), F1 CE# (in), F2 DQ8 (io), F3 DQ10 (io), F4 DQ12 (io), F5 DQ14 (io), F6 BYTE# (in), G1 OE# (in), G2 DQ9 (io), G3 DQ11 (io), G4 VCC (power), G5 DQ13 (io), G6 DQ15/A-1 (io), H1 VSS (power), H2 DQ1 (io), H3 DQ3 (io), H4 DQ4 (io), H5 DQ6 (io), H6 VSS (power)

## AM29LV400BT120WAE
designator U?
4 Mb (512 K x 8 / 256 K x 16) CMOS 3.0 Volt Boot Sector Flash Memory, 48-Ball FBGA, Extended Grade; Published: 6-Oct-2005; LatestRevisionDate: 13-Apr-2006; LatestRevisionNote: IPC-7351 Footprint Added.; DatasheetVersion: Oct-2003; PackageVersion: revAF, 10/99; PackageReference: FBA048; Publisher: Altium Limited; PackageDescription: 48-Ball Fine Pitch Ball Grid Array Rectangular 0.8 mm Pitch; ComponentLink1Description: Manufacturer Link; ComponentLink1URL: http://www.spansion.com/; ComponentLink2Description: Datasheet; ComponentLink2URL: http://www.spansion.com/datasheets/21523.pdf
footprint FBA048 (BGA, 48-Leads, Body 8x6mm, Pitch 0.8mm)
pins: A1 A3 (in), A2 A7 (in), A3 RY/BY# (out), A4 WE# (in), A5 A9 (in), A6 A13 (in), B1 A4 (in), B2 A17 (in), B3 NC, B4 RESET# (in), B5 A8 (in), B6 A12 (in), C1 A2 (in), C2 A6 (in), C3 NC, C4 NC, C5 A10 (in), C6 A14 (in), D1 A1 (in), D2 A5 (in), D3 NC, D4 NC, D5 A11 (in), D6 A15 (in), E1 A0 (in), E2 DQ0 (io), E3 DQ2 (io), E4 DQ5 (io), E5 DQ7 (io), E6 A16 (in), F1 CE# (in), F2 DQ8 (io), F3 DQ10 (io), F4 DQ12 (io), F5 DQ14 (io), F6 BYTE# (in), G1 OE# (in), G2 DQ9 (io), G3 DQ11 (io), G4 VCC (power), G5 DQ13 (io), G6 DQ15/A-1 (io), H1 VSS (power), H2 DQ1 (io), H3 DQ3 (io), H4 DQ4 (io), H5 DQ6 (io), H6 VSS (power)

## AM29LV400BT120WAF
designator U?
4 Mb (512 K x 8 / 256 K x 16) CMOS 3.0 Volt Boot Sector Flash Memory, 48-Ball FBGA, Industrial Grade, Pb-free; Published: 6-Oct-2005; LatestRevisionDate: 13-Apr-2006; LatestRevisionNote: IPC-7351 Footprint Added.; DatasheetVersion: Oct-2003; PackageVersion: revAF, 10/99; PackageReference: FBA048; Publisher: Altium Limited; PackageDescription: 48-Ball Fine Pitch Ball Grid Array Rectangular 0.8 mm Pitch; ComponentLink1Description: Manufacturer Link; ComponentLink1URL: http://www.spansion.com/; ComponentLink2Description: Datasheet; ComponentLink2URL: http://www.spansion.com/datasheets/21523.pdf
footprint FBA048 (BGA, 48-Leads, Body 8x6mm, Pitch 0.8mm)
pins: A1 A3 (in), A2 A7 (in), A3 RY/BY# (out), A4 WE# (in), A5 A9 (in), A6 A13 (in), B1 A4 (in), B2 A17 (in), B3 NC, B4 RESET# (in), B5 A8 (in), B6 A12 (in), C1 A2 (in), C2 A6 (in), C3 NC, C4 NC, C5 A10 (in), C6 A14 (in), D1 A1 (in), D2 A5 (in), D3 NC, D4 NC, D5 A11 (in), D6 A15 (in), E1 A0 (in), E2 DQ0 (io), E3 DQ2 (io), E4 DQ5 (io), E5 DQ7 (io), E6 A16 (in), F1 CE# (in), F2 DQ8 (io), F3 DQ10 (io), F4 DQ12 (io), F5 DQ14 (io), F6 BYTE# (in), G1 OE# (in), G2 DQ9 (io), G3 DQ11 (io), G4 VCC (power), G5 DQ13 (io), G6 DQ15/A-1 (io), H1 VSS (power), H2 DQ1 (io), H3 DQ3 (io), H4 DQ4 (io), H5 DQ6 (io), H6 VSS (power)

## AM29LV400BT120WAI
designator U?
4 Mb (512 K x 8 / 256 K x 16) CMOS 3.0 Volt Boot Sector Flash Memory, 48-Ball FBGA, Industrial Grade; Published: 6-Oct-2005; LatestRevisionDate: 13-Apr-2006; LatestRevisionNote: IPC-7351 Footprint Added.; DatasheetVersion: Oct-2003; PackageVersion: revAF, 10/99; PackageReference: FBA048; Publisher: Altium Limited; PackageDescription: 48-Ball Fine Pitch Ball Grid Array Rectangular 0.8 mm Pitch; ComponentLink1Description: Manufacturer Link; ComponentLink1URL: http://www.spansion.com/; ComponentLink2Description: Datasheet; ComponentLink2URL: http://www.spansion.com/datasheets/21523.pdf
footprint FBA048 (BGA, 48-Leads, Body 8x6mm, Pitch 0.8mm)
pins: A1 A3 (in), A2 A7 (in), A3 RY/BY# (out), A4 WE# (in), A5 A9 (in), A6 A13 (in), B1 A4 (in), B2 A17 (in), B3 NC, B4 RESET# (in), B5 A8 (in), B6 A12 (in), C1 A2 (in), C2 A6 (in), C3 NC, C4 NC, C5 A10 (in), C6 A14 (in), D1 A1 (in), D2 A5 (in), D3 NC, D4 NC, D5 A11 (in), D6 A15 (in), E1 A0 (in), E2 DQ0 (io), E3 DQ2 (io), E4 DQ5 (io), E5 DQ7 (io), E6 A16 (in), F1 CE# (in), F2 DQ8 (io), F3 DQ10 (io), F4 DQ12 (io), F5 DQ14 (io), F6 BYTE# (in), G1 OE# (in), G2 DQ9 (io), G3 DQ11 (io), G4 VCC (power), G5 DQ13 (io), G6 DQ15/A-1 (io), H1 VSS (power), H2 DQ1 (io), H3 DQ3 (io), H4 DQ4 (io), H5 DQ6 (io), H6 VSS (power)

## AM29LV400BT120WAK
designator U?
4 Mb (512 K x 8 / 256 K x 16) CMOS 3.0 Volt Boot Sector Flash Memory, 48-Ball FBGA, Extended Grade, Pb-free; Published: 6-Oct-2005; LatestRevisionDate: 13-Apr-2006; LatestRevisionNote: IPC-7351 Footprint Added.; DatasheetVersion: Oct-2003; PackageVersion: revAF, 10/99; PackageReference: FBA048; Publisher: Altium Limited; PackageDescription: 48-Ball Fine Pitch Ball Grid Array Rectangular 0.8 mm Pitch; ComponentLink1Description: Manufacturer Link; ComponentLink1URL: http://www.spansion.com/; ComponentLink2Description: Datasheet; ComponentLink2URL: http://www.spansion.com/datasheets/21523.pdf
footprint FBA048 (BGA, 48-Leads, Body 8x6mm, Pitch 0.8mm)
pins: A1 A3 (in), A2 A7 (in), A3 RY/BY# (out), A4 WE# (in), A5 A9 (in), A6 A13 (in), B1 A4 (in), B2 A17 (in), B3 NC, B4 RESET# (in), B5 A8 (in), B6 A12 (in), C1 A2 (in), C2 A6 (in), C3 NC, C4 NC, C5 A10 (in), C6 A14 (in), D1 A1 (in), D2 A5 (in), D3 NC, D4 NC, D5 A11 (in), D6 A15 (in), E1 A0 (in), E2 DQ0 (io), E3 DQ2 (io), E4 DQ5 (io), E5 DQ7 (io), E6 A16 (in), F1 CE# (in), F2 DQ8 (io), F3 DQ10 (io), F4 DQ12 (io), F5 DQ14 (io), F6 BYTE# (in), G1 OE# (in), G2 DQ9 (io), G3 DQ11 (io), G4 VCC (power), G5 DQ13 (io), G6 DQ15/A-1 (io), H1 VSS (power), H2 DQ1 (io), H3 DQ3 (io), H4 DQ4 (io), H5 DQ6 (io), H6 VSS (power)

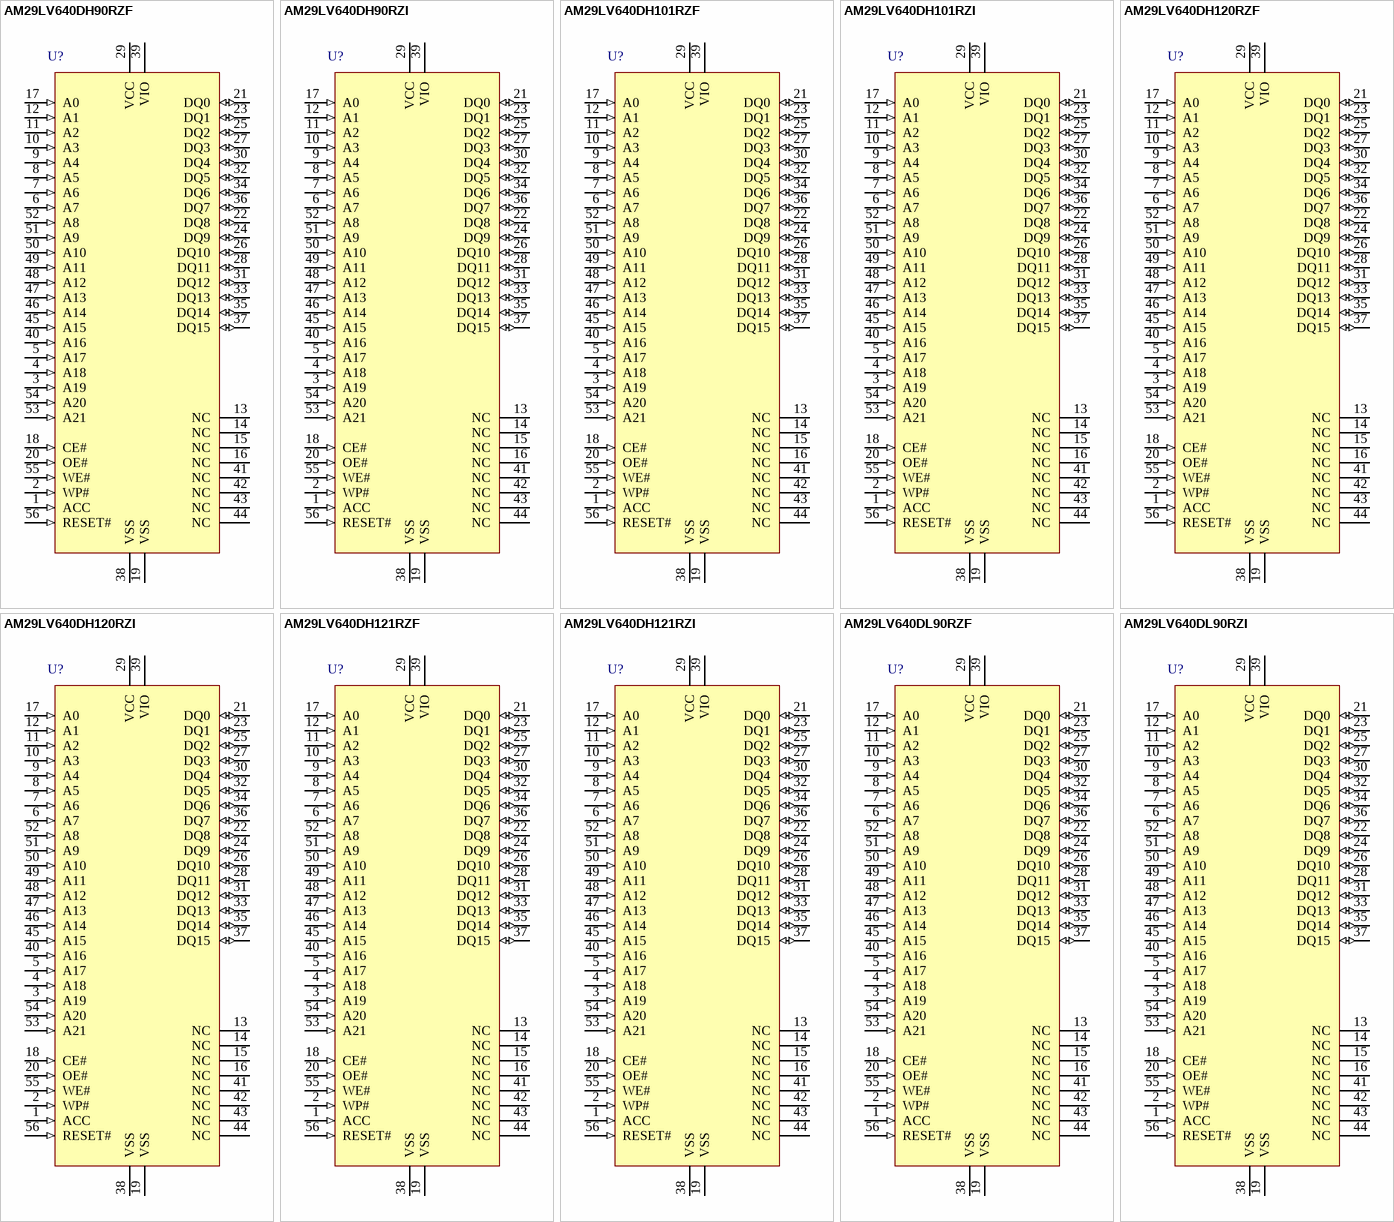
[diagram p60: symbols AM29LV640DH90RZF to AM29LV640DL90RZI]

## AM29LV640DH90RZF
designator U?
64 Mb (4 M x 16) CMOS 3.0 Volt, Uniform Sector Flash Memory with VersatileI/O Control, 56-Pin SSOP, Industrial Grade, Pb-free; Published: 6-Jun-2005; LatestRevisionDate: 13-Apr-2006; LatestRevisionNote: IPC-7351 Footprint Added.; DatasheetVersion: Feb-2005; PackageVersion: revAB, 10/99; PackageReference: SSO056; Publisher: Altium Limited; PackageDescription: 56-Pin Small Outline Package 0.8 mm Pitch; Code_JEDEC: MO-180-BA*; ComponentLink1Description: Manufacturer Link; ComponentLink1URL: http://www.spansion.com/; ComponentLink2Description: Datasheet; ComponentLink2URL: http://www.spansion.com/datasheets/22366c3.pdf
footprint SSO056_N (SOP, 56-Leads, Body 23.7x13.3mm, Pitch 0.8mm, IPC Medium Density)
footprint SSO056_L (SOP, 56-Leads, Body 23.7x13.3mm, Pitch 0.8mm, IPC High Density)
footprint SSO056_M (SOP, 56-Leads, Body 23.7x13.3mm, Pitch 0.8mm, IPC Low Density)
3D model SSO056 (56-Pin Small Outline Package 0.8 mm Pitch)
pins: 1 ACC (in), 2 WP# (in), 3 A19 (in), 4 A18 (in), 5 A17 (in), 6 A7 (in), 7 A6 (in), 8 A5 (in), 9 A4 (in), 10 A3 (in), 11 A2 (in), 12 A1 (in), 13 NC, 14 NC, 15 NC, 16 NC, 17 A0 (in), 18 CE# (in), 19 VSS (power), 20 OE# (in), 21 DQ0 (io), 22 DQ8 (io), 23 DQ1 (io), 24 DQ9 (io), 25 DQ2 (io), 26 DQ10 (io), 27 DQ3 (io), 28 DQ11 (io), 29 VCC (power), 30 DQ4 (io), 31 DQ12 (io), 32 DQ5 (io), 33 DQ13 (io), 34 DQ6 (io), 35 DQ14 (io), 36 DQ7 (io), 37 DQ15 (io), 38 VSS (power), 39 VIO (power), 40 A16 (in), 41 NC, 42 NC, 43 NC, 44 NC, 45 A15 (in), 46 A14 (in), 47 A13 (in), 48 A12 (in), 49 A11 (in), 50 A10 (in), 51 A9 (in), 52 A8 (in), 53 A21 (in), 54 A20 (in), 55 WE# (in), 56 RESET# (in)

## AM29LV640DH90RZI
designator U?
64 Mb (4 M x 16) CMOS 3.0 Volt, Uniform Sector Flash Memory with VersatileI/O Control, 56-Pin SSOP, Industrial Grade; Published: 6-Jun-2005; LatestRevisionDate: 13-Apr-2006; LatestRevisionNote: IPC-7351 Footprint Added.; DatasheetVersion: Feb-2005; PackageVersion: revAB, 10/99; PackageReference: SSO056; Publisher: Altium Limited; PackageDescription: 56-Pin Small Outline Package 0.8 mm Pitch; Code_JEDEC: MO-180-BA*; ComponentLink1Description: Manufacturer Link; ComponentLink1URL: http://www.spansion.com/; ComponentLink2Description: Datasheet; ComponentLink2URL: http://www.spansion.com/datasheets/22366c3.pdf
footprint SSO056_N (SOP, 56-Leads, Body 23.7x13.3mm, Pitch 0.8mm, IPC Medium Density)
footprint SSO056_L (SOP, 56-Leads, Body 23.7x13.3mm, Pitch 0.8mm, IPC High Density)
footprint SSO056_M (SOP, 56-Leads, Body 23.7x13.3mm, Pitch 0.8mm, IPC Low Density)
3D model SSO056 (56-Pin Small Outline Package 0.8 mm Pitch)
pins: 1 ACC (in), 2 WP# (in), 3 A19 (in), 4 A18 (in), 5 A17 (in), 6 A7 (in), 7 A6 (in), 8 A5 (in), 9 A4 (in), 10 A3 (in), 11 A2 (in), 12 A1 (in), 13 NC, 14 NC, 15 NC, 16 NC, 17 A0 (in), 18 CE# (in), 19 VSS (power), 20 OE# (in), 21 DQ0 (io), 22 DQ8 (io), 23 DQ1 (io), 24 DQ9 (io), 25 DQ2 (io), 26 DQ10 (io), 27 DQ3 (io), 28 DQ11 (io), 29 VCC (power), 30 DQ4 (io), 31 DQ12 (io), 32 DQ5 (io), 33 DQ13 (io), 34 DQ6 (io), 35 DQ14 (io), 36 DQ7 (io), 37 DQ15 (io), 38 VSS (power), 39 VIO (power), 40 A16 (in), 41 NC, 42 NC, 43 NC, 44 NC, 45 A15 (in), 46 A14 (in), 47 A13 (in), 48 A12 (in), 49 A11 (in), 50 A10 (in), 51 A9 (in), 52 A8 (in), 53 A21 (in), 54 A20 (in), 55 WE# (in), 56 RESET# (in)

## AM29LV640DH101RZF
designator U?
64 Mb (4 M x 16) CMOS 3.0 Volt, Uniform Sector Flash Memory with VersatileI/O Control, 56-Pin SSOP, Industrial Grade, Pb-free; Published: 6-Jun-2005; LatestRevisionDate: 13-Apr-2006; LatestRevisionNote: IPC-7351 Footprint Added.; DatasheetVersion: Feb-2005; PackageVersion: revAB, 10/99; PackageReference: SSO056; Publisher: Altium Limited; PackageDescription: 56-Pin Small Outline Package 0.8 mm Pitch; Code_JEDEC: MO-180-BA*; ComponentLink1Description: Manufacturer Link; ComponentLink1URL: http://www.spansion.com/; ComponentLink2Description: Datasheet; ComponentLink2URL: http://www.spansion.com/datasheets/22366c3.pdf
footprint SSO056_N (SOP, 56-Leads, Body 23.7x13.3mm, Pitch 0.8mm, IPC Medium Density)
footprint SSO056_L (SOP, 56-Leads, Body 23.7x13.3mm, Pitch 0.8mm, IPC High Density)
footprint SSO056_M (SOP, 56-Leads, Body 23.7x13.3mm, Pitch 0.8mm, IPC Low Density)
3D model SSO056 (56-Pin Small Outline Package 0.8 mm Pitch)
pins: 1 ACC (in), 2 WP# (in), 3 A19 (in), 4 A18 (in), 5 A17 (in), 6 A7 (in), 7 A6 (in), 8 A5 (in), 9 A4 (in), 10 A3 (in), 11 A2 (in), 12 A1 (in), 13 NC, 14 NC, 15 NC, 16 NC, 17 A0 (in), 18 CE# (in), 19 VSS (power), 20 OE# (in), 21 DQ0 (io), 22 DQ8 (io), 23 DQ1 (io), 24 DQ9 (io), 25 DQ2 (io), 26 DQ10 (io), 27 DQ3 (io), 28 DQ11 (io), 29 VCC (power), 30 DQ4 (io), 31 DQ12 (io), 32 DQ5 (io), 33 DQ13 (io), 34 DQ6 (io), 35 DQ14 (io), 36 DQ7 (io), 37 DQ15 (io), 38 VSS (power), 39 VIO (power), 40 A16 (in), 41 NC, 42 NC, 43 NC, 44 NC, 45 A15 (in), 46 A14 (in), 47 A13 (in), 48 A12 (in), 49 A11 (in), 50 A10 (in), 51 A9 (in), 52 A8 (in), 53 A21 (in), 54 A20 (in), 55 WE# (in), 56 RESET# (in)

## AM29LV640DH101RZI
designator U?
64 Mb (4 M x 16) CMOS 3.0 Volt, Uniform Sector Flash Memory with VersatileI/O Control, 56-Pin SSOP, Industrial Grade; Published: 6-Jun-2005; LatestRevisionDate: 13-Apr-2006; LatestRevisionNote: IPC-7351 Footprint Added.; DatasheetVersion: Feb-2005; PackageVersion: revAB, 10/99; PackageReference: SSO056; Publisher: Altium Limited; PackageDescription: 56-Pin Small Outline Package 0.8 mm Pitch; Code_JEDEC: MO-180-BA*; ComponentLink1Description: Manufacturer Link; ComponentLink1URL: http://www.spansion.com/; ComponentLink2Description: Datasheet; ComponentLink2URL: http://www.spansion.com/datasheets/22366c3.pdf
footprint SSO056_N (SOP, 56-Leads, Body 23.7x13.3mm, Pitch 0.8mm, IPC Medium Density)
footprint SSO056_L (SOP, 56-Leads, Body 23.7x13.3mm, Pitch 0.8mm, IPC High Density)
footprint SSO056_M (SOP, 56-Leads, Body 23.7x13.3mm, Pitch 0.8mm, IPC Low Density)
3D model SSO056 (56-Pin Small Outline Package 0.8 mm Pitch)
pins: 1 ACC (in), 2 WP# (in), 3 A19 (in), 4 A18 (in), 5 A17 (in), 6 A7 (in), 7 A6 (in), 8 A5 (in), 9 A4 (in), 10 A3 (in), 11 A2 (in), 12 A1 (in), 13 NC, 14 NC, 15 NC, 16 NC, 17 A0 (in), 18 CE# (in), 19 VSS (power), 20 OE# (in), 21 DQ0 (io), 22 DQ8 (io), 23 DQ1 (io), 24 DQ9 (io), 25 DQ2 (io), 26 DQ10 (io), 27 DQ3 (io), 28 DQ11 (io), 29 VCC (power), 30 DQ4 (io), 31 DQ12 (io), 32 DQ5 (io), 33 DQ13 (io), 34 DQ6 (io), 35 DQ14 (io), 36 DQ7 (io), 37 DQ15 (io), 38 VSS (power), 39 VIO (power), 40 A16 (in), 41 NC, 42 NC, 43 NC, 44 NC, 45 A15 (in), 46 A14 (in), 47 A13 (in), 48 A12 (in), 49 A11 (in), 50 A10 (in), 51 A9 (in), 52 A8 (in), 53 A21 (in), 54 A20 (in), 55 WE# (in), 56 RESET# (in)

## AM29LV640DH120RZF
designator U?
64 Mb (4 M x 16) CMOS 3.0 Volt, Uniform Sector Flash Memory with VersatileI/O Control, 56-Pin SSOP, Industrial Grade, Pb-free; Published: 6-Jun-2005; LatestRevisionDate: 13-Apr-2006; LatestRevisionNote: IPC-7351 Footprint Added.; DatasheetVersion: Feb-2005; PackageVersion: revAB, 10/99; PackageReference: SSO056; Publisher: Altium Limited; PackageDescription: 56-Pin Small Outline Package 0.8 mm Pitch; Code_JEDEC: MO-180-BA*; ComponentLink1Description: Manufacturer Link; ComponentLink1URL: http://www.spansion.com/; ComponentLink2Description: Datasheet; ComponentLink2URL: http://www.spansion.com/datasheets/22366c3.pdf
footprint SSO056_N (SOP, 56-Leads, Body 23.7x13.3mm, Pitch 0.8mm, IPC Medium Density)
footprint SSO056_L (SOP, 56-Leads, Body 23.7x13.3mm, Pitch 0.8mm, IPC High Density)
footprint SSO056_M (SOP, 56-Leads, Body 23.7x13.3mm, Pitch 0.8mm, IPC Low Density)
3D model SSO056 (56-Pin Small Outline Package 0.8 mm Pitch)
pins: 1 ACC (in), 2 WP# (in), 3 A19 (in), 4 A18 (in), 5 A17 (in), 6 A7 (in), 7 A6 (in), 8 A5 (in), 9 A4 (in), 10 A3 (in), 11 A2 (in), 12 A1 (in), 13 NC, 14 NC, 15 NC, 16 NC, 17 A0 (in), 18 CE# (in), 19 VSS (power), 20 OE# (in), 21 DQ0 (io), 22 DQ8 (io), 23 DQ1 (io), 24 DQ9 (io), 25 DQ2 (io), 26 DQ10 (io), 27 DQ3 (io), 28 DQ11 (io), 29 VCC (power), 30 DQ4 (io), 31 DQ12 (io), 32 DQ5 (io), 33 DQ13 (io), 34 DQ6 (io), 35 DQ14 (io), 36 DQ7 (io), 37 DQ15 (io), 38 VSS (power), 39 VIO (power), 40 A16 (in), 41 NC, 42 NC, 43 NC, 44 NC, 45 A15 (in), 46 A14 (in), 47 A13 (in), 48 A12 (in), 49 A11 (in), 50 A10 (in), 51 A9 (in), 52 A8 (in), 53 A21 (in), 54 A20 (in), 55 WE# (in), 56 RESET# (in)

## AM29LV640DH120RZI
designator U?
64 Mb (4 M x 16) CMOS 3.0 Volt, Uniform Sector Flash Memory with VersatileI/O Control, 56-Pin SSOP, Industrial Grade; Published: 6-Jun-2005; LatestRevisionDate: 13-Apr-2006; LatestRevisionNote: IPC-7351 Footprint Added.; DatasheetVersion: Feb-2005; PackageVersion: revAB, 10/99; PackageReference: SSO056; Publisher: Altium Limited; PackageDescription: 56-Pin Small Outline Package 0.8 mm Pitch; Code_JEDEC: MO-180-BA*; ComponentLink1Description: Manufacturer Link; ComponentLink1URL: http://www.spansion.com/; ComponentLink2Description: Datasheet; ComponentLink2URL: http://www.spansion.com/datasheets/22366c3.pdf
footprint SSO056_N (SOP, 56-Leads, Body 23.7x13.3mm, Pitch 0.8mm, IPC Medium Density)
footprint SSO056_L (SOP, 56-Leads, Body 23.7x13.3mm, Pitch 0.8mm, IPC High Density)
footprint SSO056_M (SOP, 56-Leads, Body 23.7x13.3mm, Pitch 0.8mm, IPC Low Density)
3D model SSO056 (56-Pin Small Outline Package 0.8 mm Pitch)
pins: 1 ACC (in), 2 WP# (in), 3 A19 (in), 4 A18 (in), 5 A17 (in), 6 A7 (in), 7 A6 (in), 8 A5 (in), 9 A4 (in), 10 A3 (in), 11 A2 (in), 12 A1 (in), 13 NC, 14 NC, 15 NC, 16 NC, 17 A0 (in), 18 CE# (in), 19 VSS (power), 20 OE# (in), 21 DQ0 (io), 22 DQ8 (io), 23 DQ1 (io), 24 DQ9 (io), 25 DQ2 (io), 26 DQ10 (io), 27 DQ3 (io), 28 DQ11 (io), 29 VCC (power), 30 DQ4 (io), 31 DQ12 (io), 32 DQ5 (io), 33 DQ13 (io), 34 DQ6 (io), 35 DQ14 (io), 36 DQ7 (io), 37 DQ15 (io), 38 VSS (power), 39 VIO (power), 40 A16 (in), 41 NC, 42 NC, 43 NC, 44 NC, 45 A15 (in), 46 A14 (in), 47 A13 (in), 48 A12 (in), 49 A11 (in), 50 A10 (in), 51 A9 (in), 52 A8 (in), 53 A21 (in), 54 A20 (in), 55 WE# (in), 56 RESET# (in)

## AM29LV640DH121RZF
designator U?
64 Mb (4 M x 16) CMOS 3.0 Volt, Uniform Sector Flash Memory with VersatileI/O Control, 56-Pin SSOP, Industrial Grade, Pb-free; Published: 6-Jun-2005; LatestRevisionDate: 13-Apr-2006; LatestRevisionNote: IPC-7351 Footprint Added.; DatasheetVersion: Feb-2005; PackageVersion: revAB, 10/99; PackageReference: SSO056; Publisher: Altium Limited; PackageDescription: 56-Pin Small Outline Package 0.8 mm Pitch; Code_JEDEC: MO-180-BA*; ComponentLink1Description: Manufacturer Link; ComponentLink1URL: http://www.spansion.com/; ComponentLink2Description: Datasheet; ComponentLink2URL: http://www.spansion.com/datasheets/22366c3.pdf
footprint SSO056_N (SOP, 56-Leads, Body 23.7x13.3mm, Pitch 0.8mm, IPC Medium Density)
footprint SSO056_L (SOP, 56-Leads, Body 23.7x13.3mm, Pitch 0.8mm, IPC High Density)
footprint SSO056_M (SOP, 56-Leads, Body 23.7x13.3mm, Pitch 0.8mm, IPC Low Density)
3D model SSO056 (56-Pin Small Outline Package 0.8 mm Pitch)
pins: 1 ACC (in), 2 WP# (in), 3 A19 (in), 4 A18 (in), 5 A17 (in), 6 A7 (in), 7 A6 (in), 8 A5 (in), 9 A4 (in), 10 A3 (in), 11 A2 (in), 12 A1 (in), 13 NC, 14 NC, 15 NC, 16 NC, 17 A0 (in), 18 CE# (in), 19 VSS (power), 20 OE# (in), 21 DQ0 (io), 22 DQ8 (io), 23 DQ1 (io), 24 DQ9 (io), 25 DQ2 (io), 26 DQ10 (io), 27 DQ3 (io), 28 DQ11 (io), 29 VCC (power), 30 DQ4 (io), 31 DQ12 (io), 32 DQ5 (io), 33 DQ13 (io), 34 DQ6 (io), 35 DQ14 (io), 36 DQ7 (io), 37 DQ15 (io), 38 VSS (power), 39 VIO (power), 40 A16 (in), 41 NC, 42 NC, 43 NC, 44 NC, 45 A15 (in), 46 A14 (in), 47 A13 (in), 48 A12 (in), 49 A11 (in), 50 A10 (in), 51 A9 (in), 52 A8 (in), 53 A21 (in), 54 A20 (in), 55 WE# (in), 56 RESET# (in)

## AM29LV640DH121RZI
designator U?
64 Mb (4 M x 16) CMOS 3.0 Volt, Uniform Sector Flash Memory with VersatileI/O Control, 56-Pin SSOP, Industrial Grade; Published: 6-Jun-2005; LatestRevisionDate: 13-Apr-2006; LatestRevisionNote: IPC-7351 Footprint Added.; DatasheetVersion: Feb-2005; PackageVersion: revAB, 10/99; PackageReference: SSO056; Publisher: Altium Limited; PackageDescription: 56-Pin Small Outline Package 0.8 mm Pitch; Code_JEDEC: MO-180-BA*; ComponentLink1Description: Manufacturer Link; ComponentLink1URL: http://www.spansion.com/; ComponentLink2Description: Datasheet; ComponentLink2URL: http://www.spansion.com/datasheets/22366c3.pdf
footprint SSO056_N (SOP, 56-Leads, Body 23.7x13.3mm, Pitch 0.8mm, IPC Medium Density)
footprint SSO056_L (SOP, 56-Leads, Body 23.7x13.3mm, Pitch 0.8mm, IPC High Density)
footprint SSO056_M (SOP, 56-Leads, Body 23.7x13.3mm, Pitch 0.8mm, IPC Low Density)
3D model SSO056 (56-Pin Small Outline Package 0.8 mm Pitch)
pins: 1 ACC (in), 2 WP# (in), 3 A19 (in), 4 A18 (in), 5 A17 (in), 6 A7 (in), 7 A6 (in), 8 A5 (in), 9 A4 (in), 10 A3 (in), 11 A2 (in), 12 A1 (in), 13 NC, 14 NC, 15 NC, 16 NC, 17 A0 (in), 18 CE# (in), 19 VSS (power), 20 OE# (in), 21 DQ0 (io), 22 DQ8 (io), 23 DQ1 (io), 24 DQ9 (io), 25 DQ2 (io), 26 DQ10 (io), 27 DQ3 (io), 28 DQ11 (io), 29 VCC (power), 30 DQ4 (io), 31 DQ12 (io), 32 DQ5 (io), 33 DQ13 (io), 34 DQ6 (io), 35 DQ14 (io), 36 DQ7 (io), 37 DQ15 (io), 38 VSS (power), 39 VIO (power), 40 A16 (in), 41 NC, 42 NC, 43 NC, 44 NC, 45 A15 (in), 46 A14 (in), 47 A13 (in), 48 A12 (in), 49 A11 (in), 50 A10 (in), 51 A9 (in), 52 A8 (in), 53 A21 (in), 54 A20 (in), 55 WE# (in), 56 RESET# (in)

## AM29LV640DL90RZF
designator U?
64 Mb (4 M x 16) CMOS 3.0 Volt, Uniform Sector Flash Memory with VersatileI/O Control, 56-Pin SSOP, Industrial Grade, Pb-free; Published: 6-Jun-2005; LatestRevisionDate: 13-Apr-2006; LatestRevisionNote: IPC-7351 Footprint Added.; DatasheetVersion: Feb-2005; PackageVersion: revAB, 10/99; PackageReference: SSO056; Publisher: Altium Limited; PackageDescription: 56-Pin Small Outline Package 0.8 mm Pitch; Code_JEDEC: MO-180-BA*; ComponentLink1Description: Manufacturer Link; ComponentLink1URL: http://www.spansion.com/; ComponentLink2Description: Datasheet; ComponentLink2URL: http://www.spansion.com/datasheets/22366c3.pdf
footprint SSO056_N (SOP, 56-Leads, Body 23.7x13.3mm, Pitch 0.8mm, IPC Medium Density)
footprint SSO056_L (SOP, 56-Leads, Body 23.7x13.3mm, Pitch 0.8mm, IPC High Density)
footprint SSO056_M (SOP, 56-Leads, Body 23.7x13.3mm, Pitch 0.8mm, IPC Low Density)
3D model SSO056 (56-Pin Small Outline Package 0.8 mm Pitch)
pins: 1 ACC (in), 2 WP# (in), 3 A19 (in), 4 A18 (in), 5 A17 (in), 6 A7 (in), 7 A6 (in), 8 A5 (in), 9 A4 (in), 10 A3 (in), 11 A2 (in), 12 A1 (in), 13 NC, 14 NC, 15 NC, 16 NC, 17 A0 (in), 18 CE# (in), 19 VSS (power), 20 OE# (in), 21 DQ0 (io), 22 DQ8 (io), 23 DQ1 (io), 24 DQ9 (io), 25 DQ2 (io), 26 DQ10 (io), 27 DQ3 (io), 28 DQ11 (io), 29 VCC (power), 30 DQ4 (io), 31 DQ12 (io), 32 DQ5 (io), 33 DQ13 (io), 34 DQ6 (io), 35 DQ14 (io), 36 DQ7 (io), 37 DQ15 (io), 38 VSS (power), 39 VIO (power), 40 A16 (in), 41 NC, 42 NC, 43 NC, 44 NC, 45 A15 (in), 46 A14 (in), 47 A13 (in), 48 A12 (in), 49 A11 (in), 50 A10 (in), 51 A9 (in), 52 A8 (in), 53 A21 (in), 54 A20 (in), 55 WE# (in), 56 RESET# (in)